# EAGLE library part CBTLV3244 (library GW-devices)
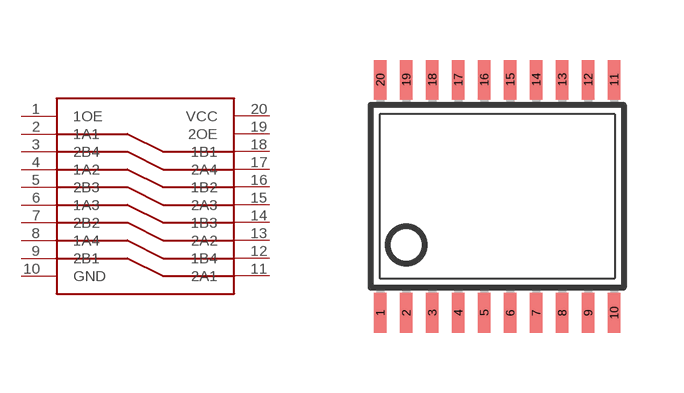
[diagram p21: symbol with the pads of TSSOP20; footprint TSSOP20]

Designator prefix -

## CBTLV3244PG  [TSSOP20]
1  1OE
2  1A1
3  2B4
4  1A2
5  2B3
6  1A3
7  2B2
8  1A4
9  2B1
10  GND
11  2A1
12  1B4
13  2A2
14  1B3
15  2A3
16  1B2
17  2A4
18  1B1
19  2OE
20  VCC

## Footprint TSSOP20 (pad centres in mm)
Thin Shrink Small Outline Plastic 20 MAX3223-MAX3243.pdf
smd 0.305 x 0.991: 1 -2.925,-2.918; 2 -2.275,-2.918; 3 -1.625,-2.918; 4 -0.975,-2.918; 5 -0.325,-2.918; 6 0.325,-2.918; 7 0.975,-2.918; 8 1.625,-2.918; 9 2.275,-2.918; 10 2.925,-2.918; 11 2.925,2.918; 12 2.275,2.918; 13 1.625,2.918; 14 0.975,2.918; 15 0.325,2.918; 16 -0.325,2.918; 17 -0.975,2.918; 18 -1.625,2.918; 19 -2.275,2.918; 20 -2.925,2.918